# Altium footprint library Discrete.PcbLib: 51 footprints (part 2 of 4)
Each footprint in its own frame and in the unit in brackets; x right, y up, seen from the top. Pads: shape width x height; smd on the part's side, far side on the other; paste and mask are expansions set on the pad; w line width, h text height; cw(c..) or ccw(c..) is an arc to the next point about the centre after c.
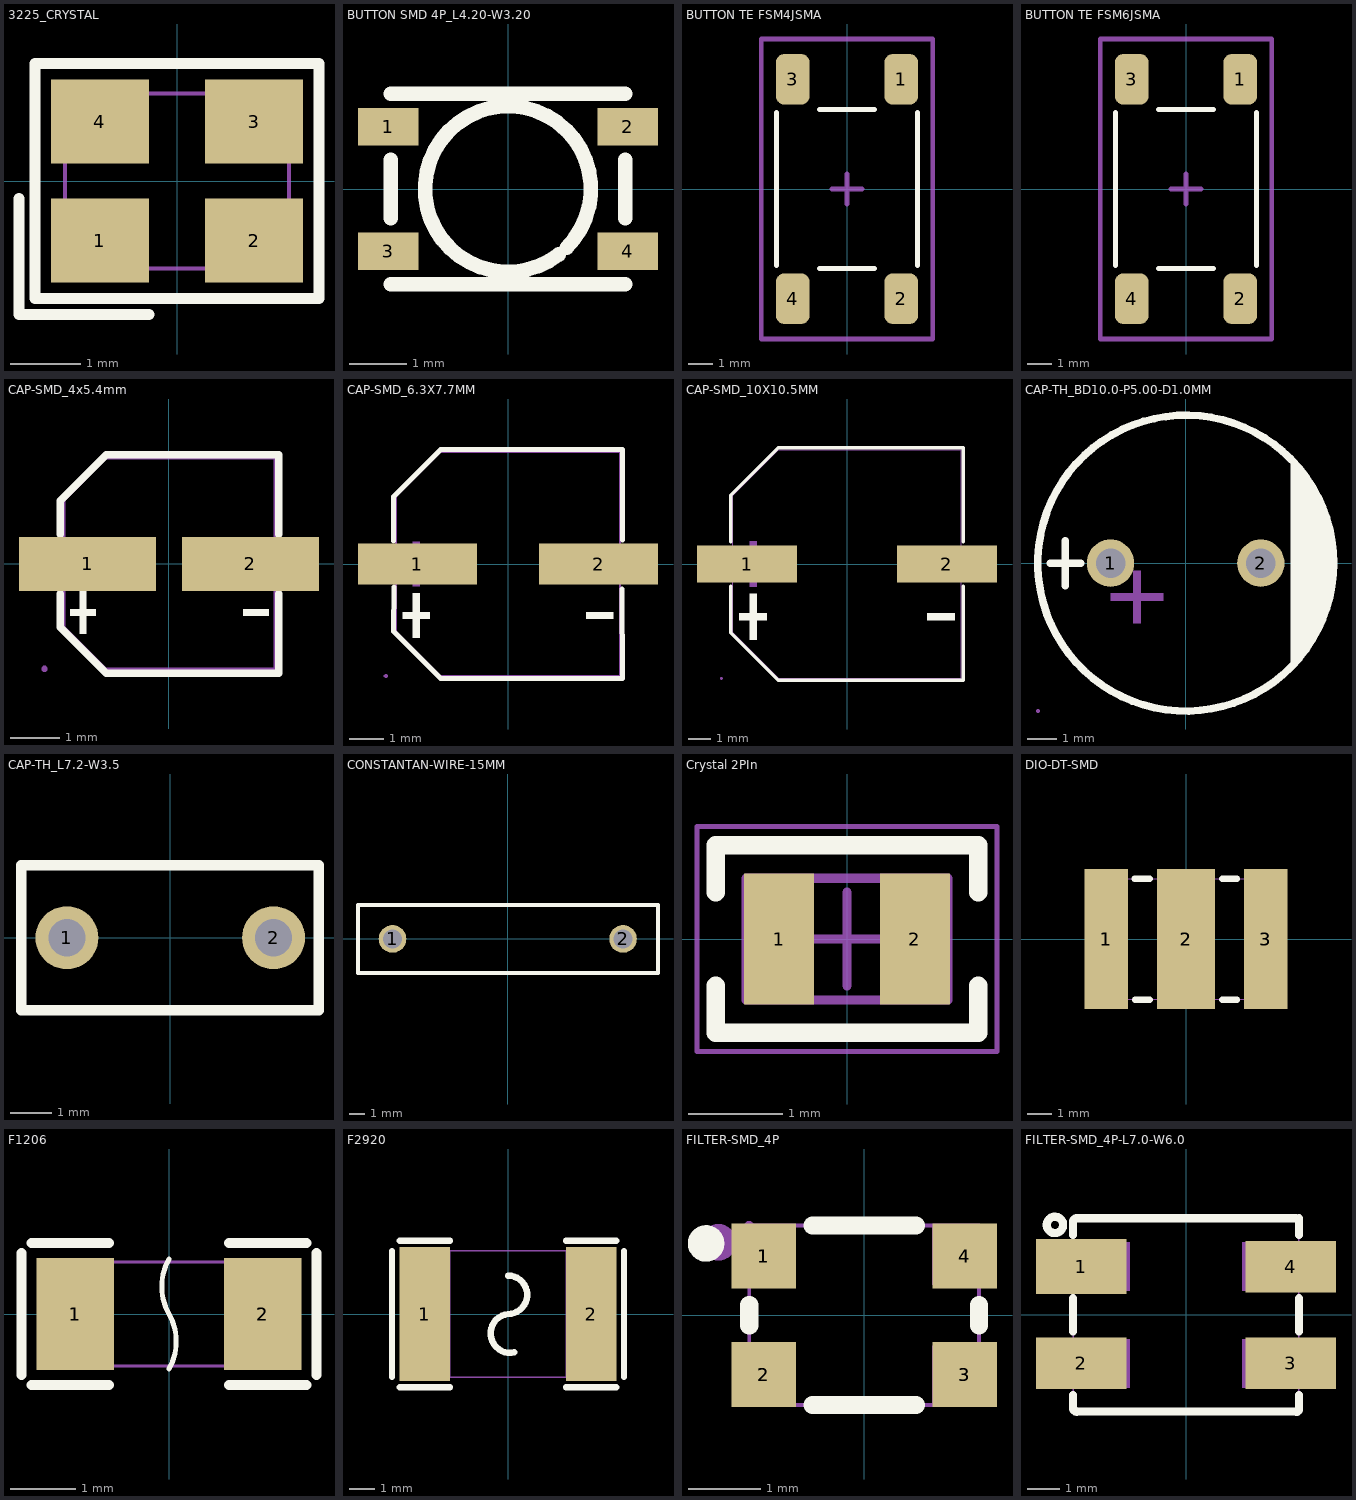
[diagram p1: the footprints below, top view; thin cyan lines are the x and y axes]

## 3225_CRYSTAL [mm]
pads (4):
  rect 1.4x1.2 smd: 1(-1.1,-0.85) 2(1.1,-0.85) 3(1.1,0.85) 4(-1.1,0.85)
Top Overlay:
  lines w0.152: -2.257,-0.25 -2.257,-1.907 -0.4,-1.907 ; -2.029,-1.678 -2.029,1.679 2.029,1.679 2.029,-1.678 -2.029,-1.678
Mechanical 6:
  circle w0.36: c-1.143,-0.889 r0.18
Mechanical 15:
  region: -1.54,-1.25 -1.54,-1.225 -1.575,-1.19 -1.625,-1.19 -1.66,-1.225 -1.66,-1.25 -1.66,-1.275 -1.625,-1.31 -1.575,-1.31 -1.54,-1.275
  region: -1.5,1.15 -0.6,1.15 -0.6,0.35 -1.5,0.35
  region: 0.6,1.15 1.5,1.15 1.5,0.35 0.6,0.35
  region: 0.6,-0.35 1.5,-0.35 1.5,-1.15 0.6,-1.15
  region: -1.5,-0.35 -0.6,-0.35 -0.6,-1.15 -1.5,-1.15
  lines w0.051: -1.6,-1.25 -1.6,1.25 1.6,1.25 1.6,-1.25 -1.6,-1.25
3D body "CRYSTAL_SMD_3225.STEP": height 1, standoff 0, extent -1.6,-1.264 1.6,1.264

## BUTTON SMD 4P_L4.20-W3.20 [mm]
pads (4):
  rect 1.05x0.65 smd: 1(-2.075,1.075) 2(2.075,1.075) 3(-2.075,-1.075) 4(2.075,-1.075)
Top Overlay:
  lines w0.254: -2.031,-1.651 2.033,-1.651 ; -2.032,-0.508 -2.032,0.508 ; -2.031,1.651 2.033,1.651 ; 0.882,-1.134 cw(c0,0) 1.016,-1.016 ; 2.032,-0.508 2.032,0.508
3D body "skrpade010.stp": height 2.5, standoff 0, extent -2.3,-1.6 2.3,1.6

## BUTTON TE FSM4JSMA [mm]
height 5.08
pads (4):
  rrect50% 1.4x2.1 smd: 1(2.25,4.55) 2(2.25,-4.55) 3(-2.25,4.55) 4(-2.25,-4.55)
Top Overlay:
  lines w0.2: -2.921,-3.175 -2.921,3.175 ; -1.143,-3.302 1.143,-3.302 ; -1.143,3.302 1.143,3.302 ; 2.921,-3.175 2.921,3.175
Mechanical 15:
  lines w0.2: -0.635,0 0.635,0 ; 0,-0.635 0,0.635 ; -3.556,-6.223 3.556,-6.223 3.556,6.223 -3.556,6.223 -3.556,-6.223
3D body "FSM4JSMA.STEP": height 5.08, standoff 0, extent -3,-5 3,5

## BUTTON TE FSM6JSMA [mm]
height 7.11
pads (4):
  rrect50% 1.4x2.1 smd: 1(2.25,4.55) 2(2.25,-4.55) 3(-2.25,4.55) 4(-2.25,-4.55)
Top Overlay:
  lines w0.2: -2.921,-3.175 -2.921,3.175 ; -1.143,-3.302 1.143,-3.302 ; -1.143,3.302 1.143,3.302 ; 2.921,-3.175 2.921,3.175
Mechanical 15:
  lines w0.2: -0.635,0 0.635,0 ; 0,-0.635 0,0.635 ; -3.556,-6.223 3.556,-6.223 3.556,6.223 -3.556,6.223 -3.556,-6.223
3D body "FSM6JSMA.STEP": height 7.11, standoff 0, extent -3,-5 3,5

## CAP-SMD_4x5.4mm [mm]
pads (2):
  rect 2.8x1.1 smd: 1(-1.661,0) 2(1.661,0)
Top Overlay:
  region: 2.031,-0.925 2.031,-1.054 1.515,-1.054 1.515,-0.925
  region: -2.011,-0.925 -2.011,-1.054 -1.495,-1.054 -1.495,-0.925
  region: -1.818,-0.559 -1.818,-1.419 -1.689,-1.419 -1.689,-0.559
  lines w0.152: -2.217,-0.607 -2.217,-1.29 -1.28,-2.226 2.236,-2.226 2.236,-0.607 ; -2.217,0.607 -2.217,1.29 -1.28,2.226 2.236,2.226 2.236,0.607
Mechanical 6:
  region: 2.031,0.064 2.031,-0.065 1.515,-0.065 1.515,0.064
  region: -2.011,0.064 -2.011,-0.065 -1.495,-0.065 -1.495,0.064
  region: -1.818,0.43 -1.818,-0.43 -1.689,-0.43 -1.689,0.43
Mechanical 15:
  region: -2.481,-2.141 -2.481,-2.116 -2.516,-2.081 -2.566,-2.081 -2.601,-2.116 -2.601,-2.141 -2.601,-2.166 -2.566,-2.201 -2.516,-2.201 -2.481,-2.166
  region: -2.541,0.325 -0.491,0.325 -0.491,-0.325 -2.541,-0.325
  region: 0.509,0.325 2.559,0.325 2.559,-0.325 0.509,-0.325
  lines w0.051: -2.141,-1.281 -1.281,-2.141 2.159,-2.141 2.159,2.159 -1.281,2.159 -2.141,1.299 -2.141,-1.281
3D body "CAPAE430X550N.stp": height 5.8, standoff 0, extent -2.424,-2.15 2.576,2.15

## CAP-SMD_6.3X7.7MM [mm]
pads (2):
  rect 3.5x1.2 smd: 1(-2.67,0) 2(2.67,0)
Top Overlay:
  region: -2.805,-0.858 -2.805,-2.178 -2.607,-2.178 -2.607,-0.858
  region: -3.102,-1.419 -3.102,-1.617 -2.31,-1.617 -2.31,-1.419
  region: 3.102,-1.419 3.102,-1.617 2.31,-1.617 2.31,-1.419
  lines w0.152: -3.376,0.686 -3.376,1.98 -1.98,3.376 3.376,3.376 3.369,0.708 ; -3.362,-0.686 -3.376,-1.981 -1.981,-3.376 3.376,-3.376 3.356,-0.739
Mechanical 6:
  region: -2.805,0.66 -2.805,-0.66 -2.607,-0.66 -2.607,0.66
  region: -3.102,0.099 -3.102,-0.099 -2.31,-0.099 -2.31,0.099
  region: 3.102,0.099 3.102,-0.099 2.31,-0.099 2.31,0.099
Mechanical 15:
  region: -3.54,-3.3 -3.541,-3.276 -3.576,-3.242 -3.624,-3.242 -3.659,-3.276 -3.66,-3.3 -3.659,-3.324 -3.624,-3.358 -3.576,-3.358 -3.541,-3.324
  region: 0.95,0.35 3.6,0.35 3.6,-0.35 0.95,-0.35
  region: -3.6,0.35 -0.95,0.35 -0.95,-0.35 -3.6,-0.35
  lines w0.051: -3.3,-1.98 -1.98,-3.3 3.3,-3.3 3.3,3.3 -1.98,3.3 -3.3,1.98 -3.3,-1.98
3D body "CAPAE660X800N.stp": height 7.7, standoff 0, extent -3.624,-3.325 3.676,3.275

## CAP-SMD_10X10.5MM [mm]
pads (2):
  rect 4.5x1.65 smd: 1(-4.5,0) 2(4.5,0)
Top Overlay:
  region: 4.841,-2.214 4.841,-2.523 3.605,-2.523 3.605,-2.214
  region: -4.841,-2.214 -4.841,-2.523 -3.605,-2.523 -3.605,-2.214
  region: -4.378,-1.339 -4.378,-3.399 -4.068,-3.399 -4.068,-1.339
  lines w0.152: -5.226,-1.005 -5.226,-3.09 -3.09,-5.226 5.226,-5.226 5.226,-1.005 ; -5.226,1.005 -5.226,3.09 -3.09,5.226 5.226,5.226 5.226,1.005
Mechanical 6:
  region: 4.841,0.155 4.841,-0.155 3.605,-0.155 3.605,0.155
  region: -4.841,0.155 -4.841,-0.155 -3.605,-0.155 -3.605,0.155
  region: -4.378,1.03 -4.378,-1.03 -4.068,-1.03 -4.068,1.03
Mechanical 15:
  region: -5.65,0.475 -2.3,0.475 -2.3,-0.475 -5.65,-0.475
  region: 2.3,0.475 5.65,0.475 5.65,-0.475 2.3,-0.475
  region: -5.59,-5.15 -5.59,-5.125 -5.625,-5.091 -5.675,-5.091 -5.71,-5.125 -5.71,-5.15 -5.71,-5.175 -5.675,-5.209 -5.625,-5.209 -5.59,-5.175
  lines w0.051: -5.15,-3.09 -5.15,3.09 -3.09,5.15 5.15,5.15 5.15,-5.15 -3.09,-5.15 -5.15,-3.09
3D body "CAPAE1030X1050N.stp": height 10.2, standoff 0, extent -5.799,-5.124 5.901,5.176

## CAP-TH_BD10.0-P5.00-D1.0MM [mm]
pads (2):
  round 1.6 hole 1: 1(-2.54,0) 2(2.54,0)
Top Overlay:
  circle w0.254: c0,0 r5
  region: 3.556,3.556 3.556,-3.556 4.318,-2.54 4.826,-1.016 5.08,0.508 4.826,1.524
  lines w0.254: -4.572,0 -3.556,0 ; -4.064,-0.762 -4.064,0.762
Mechanical 6:
  region: -1.778,-0.762 -1.778,-2.032 -1.524,-2.032 -1.524,-0.254 -1.778,-0.254
  region: -2.54,-1.016 -0.762,-1.016 -0.762,-1.27 -2.54,-1.27
Mechanical 15:
  region: -2.24,0 -2.241,0.059 -2.288,0.167 -2.372,0.25 -2.481,0.294 -2.599,0.294 -2.708,0.25 -2.792,0.167 -2.839,0.059 -2.84,0 -2.839,-0.059 -2.792,-0.167 -2.708,-0.25 -2.599,-0.294 -2.481,-0.294 -2.372,-0.25 -2.288,-0.167 -2.241,-0.059
  region: 2.84,0 2.839,0.059 2.792,0.167 2.708,0.25 2.599,0.294 2.481,0.294 2.372,0.25 2.288,0.167 2.241,0.059 2.24,0 2.241,-0.059 2.288,-0.167 2.372,-0.25 2.481,-0.294 2.599,-0.294 2.708,-0.25 2.792,-0.167 2.839,-0.059
  region: -4.94,-5 -4.94,-4.975 -4.975,-4.94 -5.025,-4.94 -5.06,-4.975 -5.06,-5 -5.06,-5.025 -5.025,-5.06 -4.975,-5.06 -4.94,-5.025
  lines w0.051: -5,0 ccw(c0,0) 5,0 ccw(c0,0) -5,0
3D body "1000uF 25V electr 10 x20mm -P.diameter 5mm-Black-White.stp": height 20, standoff -4.1, extent -5.025,-4.969 4.975,5.029

## CAP-TH_L7.2-W3.5 [mil]
pads (2):
  round 60 hole 35.43: 1(-98.42,0) 2(98.43,0)
Top Overlay:
  lines w10: -141.74,-68.9 141.73,-68.9 141.73,68.9 -141.74,68.9 -141.74,-68.9
Mechanical 15:
  region: -139.37,-68.9 -139.37,-67.92 -140.75,-66.54 -142.71,-66.54 -144.09,-67.92 -144.09,-68.9 -144.09,-69.88 -142.71,-71.26 -140.75,-71.26 -139.37,-69.88
  region: 108.27,0 108.23,1.93 106.7,5.49 103.94,8.19 100.36,9.66 96.49,9.66 92.91,8.19 90.15,5.49 88.62,1.93 88.59,0 88.62,-1.93 90.15,-5.49 92.91,-8.19 96.49,-9.66 100.36,-9.66 103.94,-8.19 106.7,-5.49 108.23,-1.93
  region: -88.58,0 -88.62,1.93 -90.15,5.49 -92.91,8.19 -96.49,9.66 -100.36,9.66 -103.94,8.19 -106.7,5.49 -108.23,1.93 -108.26,0 -108.23,-1.93 -106.7,-5.49 -103.94,-8.19 -100.36,-9.66 -96.49,-9.66 -92.91,-8.19 -90.15,-5.49 -88.62,-1.93
  lines w2: -141.73,-68.9 141.73,-68.9 141.73,68.9 -141.73,68.9 -141.73,-68.9
3D body "C393118_CAP-TH_L7.2-W3.5-H7.5-P5.0.step": height 287.4, standoff -137.8, extent -139.73,-69.89 143.74,67.94

## CONSTANTAN-WIRE-15MM [mm]
height 15.6
pads (2):
  round 1.8 hole 1.25 paste+0.075 mask+0.075: 1(-7.5,0) 2(7.53,0)
Top Overlay:
  lines w0.254: -9.75,2.211 -9.75,-2.227 9.808,-2.227 9.808,2.211 ; -9.75,2.218 9.75,2.218

## Crystal 2PIn [mm] "Crystal, 2-Leads, Body 1.20x2.00mm, Pitch 1.50mm, IPC Medium Density"
height 0.6
pads (2):
  rect 0.75x1.4 smd: 1(-0.725,0) 2(0.725,0)
Top Overlay:
  lines w0.2: -1.4,-0.5 -1.4,-1 0,-1 1.4,-1 1.4,-0.5 ; -1.4,0.5 -1.4,1 1.4,1 1.4,0.5
Mechanical 13:
  lines w0.1: -1.075,-0.65 -1.075,0.65 1.075,0.65 1.075,-0.65 -1.075,-0.65
Mechanical 15:
  lines w0.05: -1.6,-1.2 -1.6,1.2 1.6,1.2 1.6,-1.2 -1.6,-1.2
  lines w0.1: -0.5,0 0.5,0 ; 0,-0.5 0,0.5
3D body "Abracon ABS06.STEP": height 0.6, standoff 0, extent -1.025,-0.625 1.025,0.625

## DIO-DT-SMD [mm]
pads (6):
  rect 1.8x5.8 smd: 1(-3.3,0) 3(3.3,0)
  rect 1.8x5.8 on Top Solder: 1(-3.3,0) 3(3.3,0)
  rect 2.4x5.8 smd: 2(0,0)
  rect 2.4x5.8 on Top Solder: 2(0,0)
Top Overlay:
  lines w0.254: -2.13,2.49 -1.5,2.49 ; -2.115,-2.51 -1.5,-2.51 ; 1.5,-2.51 2.105,-2.51 ; 1.5,2.49 2.115,2.49
Mechanical 6:
  lines w0.254: -3.6,-2.51 -3.6,2.49 ; 3.6,-2.51 3.6,2.49
Mechanical 15:
  region: -0.75,2.5 0.75,2.5 0.75,-2.5 -0.75,-2.5
  region: 3.2,2.5 3.6,2.5 3.6,-2.5 3.2,-2.5
  region: -3.6,2.5 -3.2,2.5 -3.2,-2.5 -3.6,-2.5
  region: -3.54,-2.5 -3.54,-2.475 -3.575,-2.44 -3.625,-2.44 -3.66,-2.475 -3.66,-2.5 -3.66,-2.525 -3.625,-2.56 -3.575,-2.56 -3.54,-2.525
  lines w0.051: -3.6,-2.5 3.6,-2.5 3.6,2.5 -3.6,2.5 -3.6,-2.5
3D body "2028-25-alf.stp": height 8.06, standoff 0.06, extent -5.047,-3.873 4.953,4.127

## F1206 [mm]
pads (4):
  rect 1.19x1.728 smd: 1(-1.445,0) 2(1.445,0)
  rect 1.19x1.728 on Top Solder: 1(-1.445,0) 2(1.445,0)
Top Overlay:
  lines w0.076: 0,-0.845 ccw(c-0.732,-0.422) 0,0 cw(c0.732,0.422) 0,0.845
  lines w0.152: -2.269,-0.94 -2.269,0.94 ; -2.116,-1.093 -0.926,-1.093 ; -2.116,1.093 -0.926,1.093 ; 0.926,-1.093 2.116,-1.093 ; 0.926,1.093 2.116,1.093 ; 2.269,-0.94 2.269,0.94
Mechanical 15:
  region: 1.1,-0.8 1.6,-0.8 1.6,0.8 1.1,0.8
  region: -1.6,-0.8 -1.1,-0.8 -1.1,0.8 -1.6,0.8
  region: -1.54,-0.8 -1.54,-0.775 -1.575,-0.74 -1.625,-0.74 -1.66,-0.775 -1.66,-0.8 -1.66,-0.825 -1.625,-0.86 -1.575,-0.86 -1.54,-0.825
  lines w0.051: -1.6,-0.8 -1.6,0.8 1.6,0.8 1.6,-0.8 -1.6,-0.8
3D body "0ZCJ0005FF2E.step": height 0.71, standoff 0.01, extent -1.7,-0.841 1.7,0.859

## F2920 [mm]
pads (2):
  rect 2x5.3 smd: 1(-3.3,0) 2(3.3,0)
Top Overlay:
  lines w0.254: -4.6,-2.5 -4.6,2.5 ; -4.3,-2.9 -2.3,-2.9 ; -4.3,2.9 -2.3,2.9 ; 0,1.524 cw(c0,0.762) 0,0 ccw(c0.085,-0.769) 0.254,-1.524 ; 2.3,-2.9 4.3,-2.9 ; 2.3,2.9 4.3,2.9 ; 4.6,-2.5 4.6,2.5
Mechanical 15:
  region: 3.7,-2.5 2.3,-2.5 2.3,2.5 3.7,2.5
  region: -3.7,2.5 -2.3,2.5 -2.3,-2.5 -3.7,-2.5
  region: -3.64,-2.5 -3.64,-2.475 -3.675,-2.44 -3.725,-2.44 -3.76,-2.475 -3.76,-2.5 -3.76,-2.525 -3.725,-2.56 -3.675,-2.56 -3.64,-2.525
  lines w0.051: -3.7,-2.5 -3.7,2.5 3.7,2.5 3.7,-2.5 -3.7,-2.5
3D body "C2977527_F2920-1.step": height 0.5, standoff 0, extent -3.68,-2.56 3.68,2.56

## FILTER-SMD_4P [mm]
pads (8):
  rect 0.9x0.9 smd: 1(-1.4,0.825) 2(-1.4,-0.825) 3(1.4,-0.825) 4(1.4,0.825)
  rect 0.9x0.9 on Top Solder: 1(-1.4,0.825) 2(-1.4,-0.825) 3(1.4,-0.825) 4(1.4,0.825)
Top Overlay:
  circle w0.254: c-2.2,1 r0.127
  lines w0.254: -1.6,-0.144 -1.6,0.144 ; -0.719,-1.25 0.719,-1.25 ; -0.719,1.25 0.719,1.25 ; 1.6,-0.144 1.6,0.144
Mechanical 6:
  circle w0.254: c-2.032,1.016 r0.127
Mechanical 15:
  region: -0.95,-0.425 -0.95,-1.225 -1.6,-1.225 -1.6,-0.425
  region: -0.95,1.225 -0.95,0.425 -1.6,0.425 -1.6,1.225
  region: 1.6,1.225 1.6,0.425 0.95,0.425 0.95,1.225
  region: 1.6,-0.425 1.6,-1.225 0.95,-1.225 0.95,-0.425
  region: -1.54,1.25 -1.54,1.275 -1.575,1.31 -1.625,1.31 -1.66,1.275 -1.66,1.25 -1.66,1.225 -1.625,1.19 -1.575,1.19 -1.54,1.225
  lines w0.051: -1.6,-1.25 -1.6,1.25 1.6,1.25 1.6,-1.25 -1.6,-1.25
3D body "Coilcraft-1210CAN.STEP": height 2.74, standoff 0, extent -1.524,-1.27 1.524,1.27

## FILTER-SMD_4P-L7.0-W6.0 [mm]
pads (4):
  rect 2.8x1.7 smd: 1(-3.251,1.5)
  rect 2.8x1.6 smd: 2(-3.251,-1.5) 3(3.251,-1.5) 4(3.251,1.5)
Top Overlay:
  circle w0.254: c-4.064,2.794 r0.254
  lines w0.254: -3.5,-2.48 -3.5,-2.888 ccw(c-3.388,-2.888) -3.388,-2.999 ; -3.5,-0.516 -3.5,0.516 ; -3.5,2.48 -3.5,2.889 cw(c-3.388,2.889) -3.388,3.001 ; -3.378,-2.997 -1.6,-2.997 1.651,-2.997 3.429,-2.997 ; -3.378,2.998 -1.6,2.998 1.651,2.998 3.378,2.998 ; 3.388,3.001 cw(c3.388,2.889) 3.5,2.889 ; 3.429,-2.999 ccw(c3.429,-2.928) 3.5,-2.929 3.5,-2.48 ; 3.5,-0.516 3.5,0.516 ; 3.5,2.48 3.5,2.998
Mechanical 15:
  region: -3.44,3 -3.44,3.025 -3.475,3.06 -3.525,3.06 -3.56,3.025 -3.56,3 -3.56,2.975 -3.525,2.94 -3.475,2.94 -3.44,2.975
  region: -3.5,2.25 -1.75,2.25 -1.75,0.75 -3.5,0.75
  region: -3.5,-0.75 -1.75,-0.75 -1.75,-2.25 -3.5,-2.25
  region: 3.5,0.75 1.75,0.75 1.75,2.25 3.5,2.25
  region: 3.5,-2.25 1.75,-2.25 1.75,-0.75 3.5,-0.75
  lines w0.051: -3.5,-3 3.5,-3 3.5,3 -3.5,3 -3.5,-3
3D body "C78246_FILTER-SMD_4P-L7.0-W6.0-TL_ACM7060F.step": height 3.8, standoff 0, extent -3.52,-2.99 3.5,3.01